# Altium footprint library PcbLib2.PcbLib: 22 footprints (part 1 of 2)
Each footprint in its own frame and in the unit in brackets; x right, y up, seen from the top. Pads: shape width x height; smd on the part's side, far side on the other; paste and mask are expansions set on the pad; w line width, h text height; cw(c..) or ccw(c..) is an arc to the next point about the centre after c.
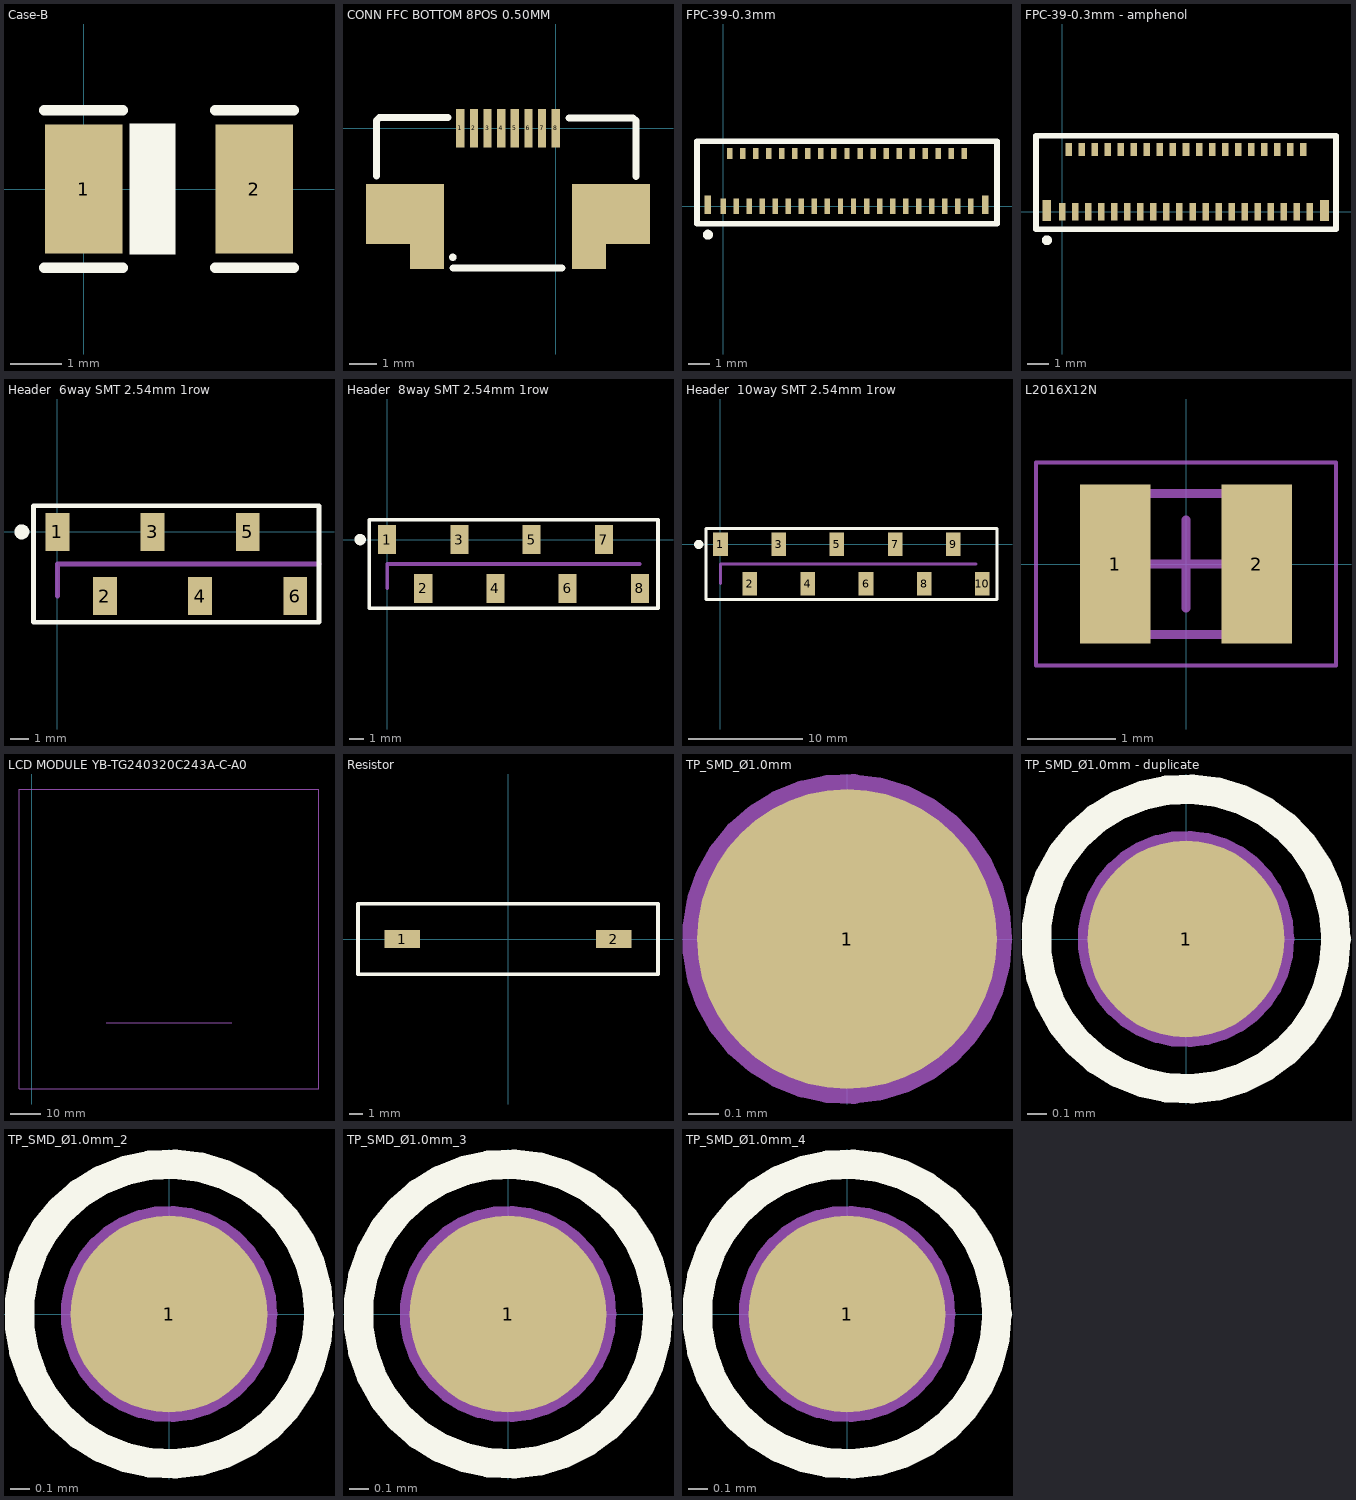
[diagram p0: the footprints below, top view; thin cyan lines are the x and y axes]

## Case-B [mm] "Tantalum capacitors standart case B"
height 2
pads (2):
  rect 1.5x2.5 smd: 1(0,0) 2(3.302,0)
Top Overlay:
  rectangle: 0.889,-1.27 1.778,1.27
  lines w0.2: -0.762,-1.524 0.762,-1.524 ; -0.762,1.524 0.762,1.524 ; 2.54,-1.524 4.064,-1.524 ; 2.54,1.524 4.064,1.524
3D body "Case B.STEP": height 2.14, standoff 0.04, extent -0.194,-1.397 3.496,1.423

## CONN FFC BOTTOM 8POS 0.50MM [mm]
height 0.95
pads (12):
  rect 0.3x1.4 smd: 1(-3.5,0) 2(-3,0) 3(-2.5,0) 4(-2,0) 5(-1.5,0) 6(-1,0) 7(-0.5,0) 8(0,0)
  rect 1.6x2.2 smd: ""(-6.15,-3.15) ""(2.65,-3.15)
  rect 1.25x3.1 smd: ""(-4.725,-3.6) ""(1.225,-3.6)
Top Overlay:
  circle w0.254: c-3.77,-4.73 r0.01
  lines w0.254: -6.57,-1.75 -6.57,0.29 -6.47,0.39 -3.95,0.39 ; -3.76,-5.12 0.23,-5.12 ; 0.49,0.38 2.84,0.38 2.94,0.28 2.94,-1.76
3D body: height 0.25, standoff 0, extent 9.6,1.5 9.6,1.5
3D body "528920833.stp": height 2, standoff -0.04, extent -6.48,-5.1 2.92,0.4

## FPC-39-0.3mm [mm] "0.30mm Pitch, Right-Angle, Bottom Contact, 0.95mm Height, 39 Circuits, Gold over Nickel Plating"
height 0.95
pads (41):
  rect 0.25x0.72 smd: 1(0,0) 3(0.6,0) 5(1.2,0) 7(1.8,0) 9(2.4,0) 11(3,0) 13(3.6,0) 15(4.2,0) 17(4.8,0) 19(5.4,0) 21(6,0) 23(6.6,0) 25(7.2,0) 27(7.8,0) 29(8.4,0) 31(9,0) 33(9.6,0) 35(10.2,0) 37(10.8,0) 39(11.4,0)
  rect 0.25x0.52 smd: 2(0.3,2.43) 4(0.9,2.43) 6(1.5,2.43) 8(2.1,2.43) 10(2.7,2.43) 12(3.3,2.43) 14(3.9,2.43) 16(4.5,2.43) 18(5.1,2.43) 20(5.7,2.43) 22(6.3,2.43) 24(6.9,2.43) 26(7.5,2.43) 28(8.1,2.43) 30(8.7,2.43) 32(9.3,2.43) 34(9.9,2.43) 36(10.5,2.43) 38(11.1,2.43)
  rect 0.3x0.85 smd: ""(-0.71,0.065) ""(12.07,0.065)
Top Overlay:
  circle w0.254: c-0.7,-1.3 r0.1
  lines w0.254: -1.2,-0.8 12.6,-0.8 12.6,3 -1.2,3 -1.2,-0.8
3D body "5035663902.sldprt": height 0.94, standoff -0.01, extent -0.975,-0.31 12.375,2.54

## FPC-39-0.3mm - amphenol [mm] "0.30mm Pitch, Right-Angle, Bottom Contact, 0.95mm Height, 39 Circuits, Gold over Nickel Plating"
height 0.95
pads (41):
  rect 0.3x0.8 smd: 1(0,0) 3(0.6,0) 5(1.2,0) 7(1.8,0) 9(2.4,0) 11(3,0) 13(3.6,0) 15(4.2,0) 17(4.8,0) 19(5.4,0) 21(6,0) 23(6.6,0) 25(7.2,0) 27(7.8,0) 29(8.4,0) 31(9,0) 33(9.6,0) 35(10.2,0) 37(10.8,0) 39(11.4,0)
  rect 0.3x0.6 smd: 2(0.3,2.875) 4(0.9,2.875) 6(1.5,2.875) 8(2.1,2.875) 10(2.7,2.875) 12(3.3,2.875) 14(3.9,2.875) 16(4.5,2.875) 18(5.1,2.875) 20(5.7,2.875) 22(6.3,2.875) 24(6.9,2.875) 26(7.5,2.875) 28(8.1,2.875) 30(8.7,2.875) 32(9.3,2.875) 34(9.9,2.875) 36(10.5,2.875) 38(11.1,2.875)
  rect 0.4x0.95 smd: ""(-0.71,0.065) ""(12.07,0.065)
Top Overlay:
  circle w0.254: c-0.7,-1.3 r0.1
  lines w0.254: -1.2,-0.8 -1.2,3.51 12.6,3.51 12.6,-0.8 -1.2,-0.8
3D body "10061122-391320HLFc.stp": height 0.9, standoff 0, extent -1.05,-0.38 12.45,3.12

## Header  6way SMT 2.54mm 1row [mm] "Single Row,  6  Positions, 2.54 mm"
height 10.62
pads (6):
  rect 1.27x2.03 smd: 1(0,0) 2(2.54,-3.43) 3(5.08,0) 4(7.62,-3.43) 5(10.16,0) 6(12.7,-3.43)
Top Overlay:
  circle w0.5: c-1.9,0 r0.15
  lines w0.254: -1.27,-4.826 13.97,-4.826 13.97,1.397 -1.27,1.397 -1.27,-4.826
Mechanical 7:
  lines w0.254: 0,-3.43 0,-1.715 13.97,-1.715
3D body "s10129380-906002XLF.stp": height 11.87, standoff -0.02, extent -1.23,-4.15 14.01,0.644

## Header  8way SMT 2.54mm 1row [mm] "Single Row,  8 Positions, 2.54 mm"
height 10.62
pads (8):
  rect 1.27x2.03 smd: 1(0,0) 2(2.54,-3.43) 3(5.08,0) 4(7.62,-3.43) 5(10.16,0) 6(12.7,-3.43) 7(15.24,0) 8(17.78,-3.43)
Top Overlay:
  circle w0.5: c-1.9,0 r0.15
  lines w0.254: -1.27,-4.826 -1.27,1.397 19.05,1.397 19.05,-4.826 -1.27,-4.826
Mechanical 7:
  lines w0.254: 0,-3.43 0,-1.715 17.78,-1.715
3D body "s10129380-908002XLF.stp": height 11.87, standoff -0.02, extent -1.27,-4.159 19.05,0.635

## Header  10way SMT 2.54mm 1row [mm] "Single Row, 10 Positions, 2.54 mm"
height 10.62
pads (10):
  rect 1.27x2.03 smd: 1(0,0) 2(2.54,-3.43) 3(5.08,0) 4(7.62,-3.43) 5(10.16,0) 6(12.7,-3.43) 7(15.24,0) 8(17.78,-3.43) 9(20.32,0) 10(22.86,-3.43)
Top Overlay:
  circle w0.5: c-1.9,0 r0.15
  lines w0.254: -1.27,-4.826 24.13,-4.826 24.13,1.397 -1.27,1.397 -1.27,-4.826
Mechanical 7:
  lines w0.254: 0,-3.43 0,-1.715 22.295,-1.715
3D body "s10129380-910002XLF.stp": height 11.87, standoff -0.02, extent -1.27,-4.159 24.13,0.635

## L2016X12N [mm] "Chip Inductor, 2-Leads, Body 2.00x1.60mm, IPC Medium Density"
height 1.2
pads (2):
  rect 0.8x1.8 smd: 1(-0.8,0) 2(0.8,0)
Mechanical 13:
  lines w0.1: -1,-0.8 1,-0.8 1,0.8 -1,0.8 -1,-0.8
Mechanical 15:
  lines w0.05: -1.7,-1.15 1.7,-1.15 1.7,1.15 -1.7,1.15 -1.7,-1.15
  lines w0.1: -0.5,0 0.5,0 ; 0,-0.5 0,0.5
3D body: height 1.2, standoff 0, extent 0.4,-0.8 1,0.8
3D body: height 1.2, standoff 0, extent -1,-0.8 -0.4,0.8
3D body: height 1.2, standoff 0, extent -0.4,-0.8 0.4,0.8

## LCD MODULE YB-TG240320C243A-C-A0 [mm] "LCD MODULE YB-TG240320C243A-C-A0"
Mechanical 1:
  lines w0.254: 24.78,-89.22 66.78,-89.22 ; -4.22,-111.29 94.98,-111.29 95.78,-111.29 95.78,-11.29 -4.22,-11.29 -4.22,-111.29
3D body: height 1.27, standoff 0, extent 61.27,2.31 61.27,2.31
3D body: height 2.9, standoff 2.4, extent 78,-104.097 86,-96.103
3D body: height 2.9, standoff 2.4, extent 60.7,-104.097 68.7,-96.103
3D body: height 2.9, standoff 2.4, extent 5.78,-104.097 13.78,-96.103
3D body: height 2.9, standoff 2.4, extent 23.75,-104.097 31.75,-96.103
3D body: height 2.9, standoff 2.4, extent 41.6,-104.097 49.6,-96.103
3D body: height 1.09, standoff -1.76, extent 42.1,-100.3 42.1,-100.3
3D body: height 0.5, standoff 0.1, extent 36.75,-132.4 41.25,-104.9
3D body: height 0.25, standoff 0, extent 33.56,-56.72 33.56,-56.72
3D body: height 2.41, standoff 0.1, extent 24.78,-89.23 66.78,-30.23
3D body: height 2.4, standoff 2.39, extent -4.3,-111.3 95.7,-11.3
3D body: height 0.25, standoff 0, extent 94.98,-12.31 94.98,-12.31
3D body: height 0, standoff -2.5, extent 64.9,-78.92 65.838,-66.88
3D body: height -2.4, standoff -2.5, extent 57.5,-78.92 65.9,-66.88

## PCBComponent_1 - duplicate [mm]

## Resistor [mm]
pads (2):
  rect 2.54x1.27 smd: 1(-7.62,0) 2(7.62,0)
Top Overlay:
  lines w0.254: -10.795,-2.54 -10.795,0 -10.795,2.54 10.795,2.54 10.795,-2.54 -10.795,-2.54

## TP_SMD_Ø1.0mm [mm]
pads (1):
  round 1 smd paste-5: 1(0,0)
Mechanical 7:
  circle w0.1: c0,0 r0.5
  text ".Designator" at -0.633,0.918 h0.38

## TP_SMD_Ø1.0mm - duplicate [mm]
pads (1):
  round 1 smd paste-5: 1(0,0)
Top Overlay:
  circle w0.15: c0,0 r0.762
Mechanical 7:
  circle w0.1: c0,0 r0.5
  circle w0.1: c0,0 r0.762
  text ".Designator" at -0.633,0.918 h0.38

## TP_SMD_Ø1.0mm_2 [mm]
pads (1):
  round 1 smd paste-5: 1(0,0)
Top Overlay:
  circle w0.15: c0,0 r0.762
Mechanical 7:
  circle w0.1: c0,0 r0.762
  circle w0.1: c0,0 r0.5
  text ".Designator" at -0.633,0.918 h0.38

## TP_SMD_Ø1.0mm_3 [mm]
pads (1):
  round 1 smd paste-5: 1(0,0)
Top Overlay:
  circle w0.15: c0,0 r0.762
Mechanical 7:
  circle w0.1: c0,0 r0.762
  circle w0.1: c0,0 r0.5
  text ".Designator" at -0.633,0.918 h0.38

## TP_SMD_Ø1.0mm_4 [mm]
pads (1):
  round 1 smd paste-5: 1(0,0)
Top Overlay:
  circle w0.15: c0,0 r0.762
Mechanical 7:
  circle w0.1: c0,0 r0.762
  circle w0.1: c0,0 r0.5
  text ".Designator" at -0.633,0.918 h0.38